# EAGLE library part TSL2671 (library MAÑE)
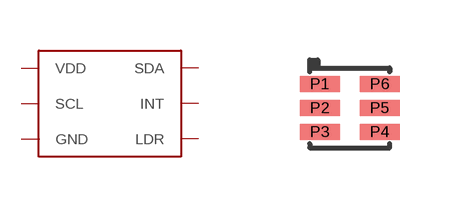
[diagram p18: symbol with the pads of FN-6; footprint FN-6]

Designator prefix -

## TSL2671  [FN-6]
P1  VDD
P2  SCL
P3  GND
P4  LDR
P5  INT
P6  SDA

## Footprint FN-6 (pad centres in mm)
smd 1 x 0.4: P1 -0.75,0.6; P2 -0.75,0; P3 -0.75,-0.6; P4 0.75,-0.6; P5 0.75,0; P6 0.75,0.6